# Altium footprint library PCB_lib.PcbLib: 16 footprints
Each footprint in its own frame and in the unit in brackets; x right, y up, seen from the top. Pads: shape width x height; smd on the part's side, far side on the other; paste and mask are expansions set on the pad; w line width, h text height; cw(c..) or ccw(c..) is an arc to the next point about the centre after c.
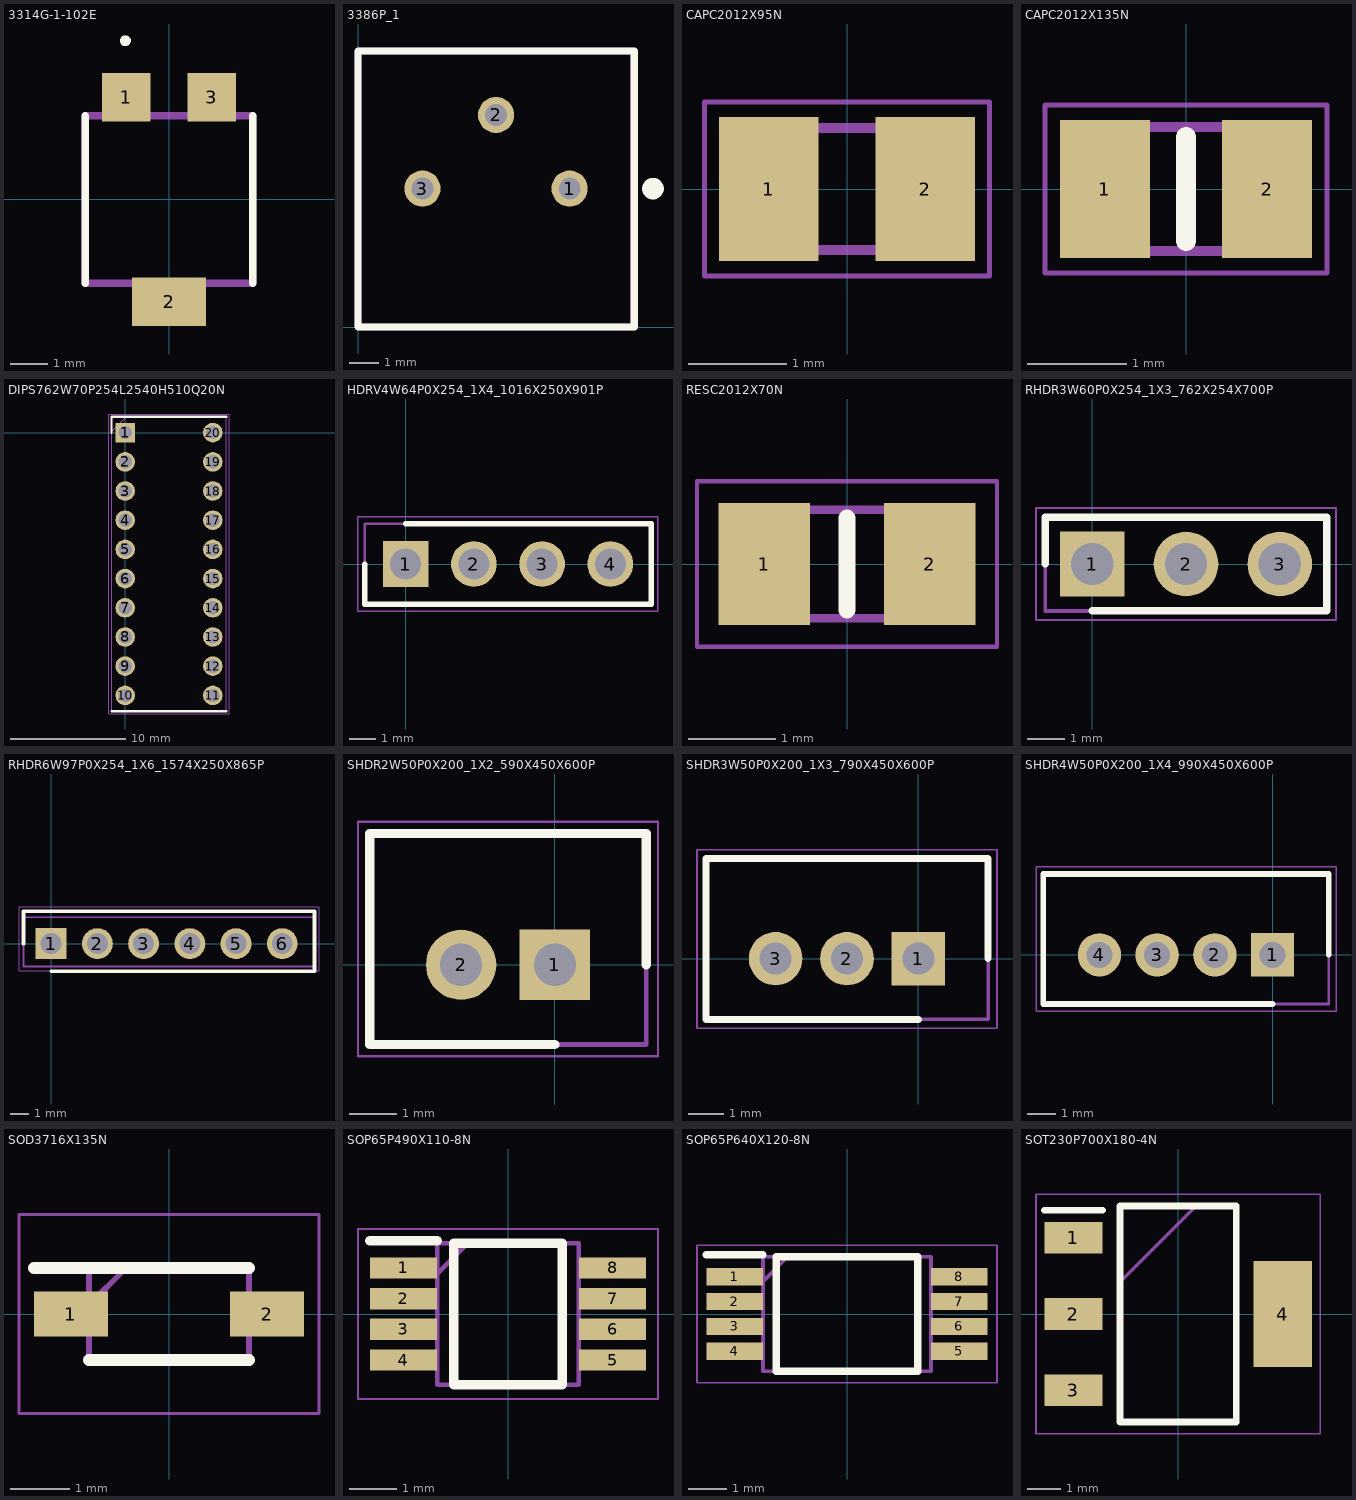
[diagram p0: the footprints below, top view; thin cyan lines are the x and y axes]

## 3314G-1-102E [mm]
pads (3):
  rect 1.3x1.3 smd: 1(-1.15,2.75) 3(1.15,2.75)
  rect 2x1.3 smd: 2(0,-2.75)
Top Overlay:
  circle w0.2: c-1.172,4.268 r0.045
  lines w0.2: -2.25,-2.25 -2.25,2.25 ; 2.25,-2.25 2.25,2.25
Mechanical 13:
  lines w0.2: -2.25,-2.25 -2.25,2.25 2.25,2.25 2.25,-2.25 -2.25,-2.25
3D body "3314G-1-103E.stp": height 2.73, standoff 0, extent -2.5,-3.099 2.5,3.099

## 3386P_1 [mm]
pads (3):
  round 1.25 hole 0.75: 1(7.305,4.78) 2(4.765,7.32) 3(2.225,4.78)
Top Overlay:
  circle w0.4: c10.182,4.778 r0.173
  lines w0.254: 0,0 9.53,0 9.53,9.53 0,9.53 0,0
Mechanical 13:
  lines w0.254: 0,0 0,9.53 9.53,9.53 9.53,0 0,0
3D body "3386P-1-103LF.stp": height 4.76, standoff -6.04, extent 0.175,0.21 9.705,9.74

## CAPC2012X95N [mm]
pads (2):
  rect 1.02x1.47 smd: 1(-0.8,0) 2(0.8,0)
Mechanical 13:
  lines w0.1: -1,-0.625 -1,0.625 1,0.625 1,-0.625 -1,-0.625
Mechanical 15:
  lines w0.05: -1.46,-0.89 -1.46,0.89 1.46,0.89 1.46,-0.89 -1.46,-0.89
3D body "CC0805KPX7R9BB104.stp": height 0.95, standoff 0, extent -1,-0.625 1,0.625

## CAPC2012X135N [mm]
pads (2):
  rect 0.91x1.39 smd: 1(-0.82,0) 2(0.82,0)
Top Overlay:
  lines w0.2: 0,-0.525 0,0.525
Mechanical 13:
  lines w0.1: -1,-0.625 -1,0.625 1,0.625 1,-0.625 -1,-0.625
Mechanical 15:
  lines w0.05: -1.425,-0.85 -1.425,0.85 1.425,0.85 1.425,-0.85 -1.425,-0.85
3D body "CL21A106KQFNNNG.stp": height 1.35, standoff 0, extent -1,-0.625 1,0.625

## DIPS762W70P254L2540H510Q20N [mm]
pads (20):
  rect 1.7x1.7 hole 1.15: 1(0,0)
  round 1.7 hole 1.15: 2(0,-2.54) 3(0,-5.08) 4(0,-7.62) 5(0,-10.16) 6(0,-12.7) 7(0,-15.24) 8(0,-17.78) 9(0,-20.32) 10(0,-22.86) 11(7.62,-22.86) 12(7.62,-20.32) 13(7.62,-17.78) 14(7.62,-15.24) 15(7.62,-12.7) 16(7.62,-10.16) 17(7.62,-7.62) 18(7.62,-5.08) 19(7.62,-2.54) 20(7.62,0)
Top Overlay:
  lines w0.2: -1.19,-24.23 8.81,-24.23 ; -1.19,0 -1.19,1.37 8.81,1.37
Mechanical 13:
  lines w0.1: -1.19,0.1 0.08,1.37 ; -1.19,-24.23 8.81,-24.23 8.81,1.37 -1.19,1.37 -1.19,-24.23
Mechanical 15:
  lines w0.05: -1.44,-24.48 9.06,-24.48 9.06,1.62 -1.44,1.62 -1.44,-24.48
3D body "1-2199298-6.stp": height 5, standoff -3.1, extent -1.19,-24.13 8.81,1.27

## HDRV4W64P0X254_1X4_1016X250X901P [mm]
pads (4):
  rect 1.7x1.7 hole 1.15: 1(0,0)
  round 1.7 hole 1.15: 2(2.54,0) 3(5.08,0) 4(7.62,0)
Top Overlay:
  lines w0.2: -1.524,0 -1.524,-1.504 9.144,-1.504 9.144,1.504 0,1.504
Mechanical 13:
  lines w0.1: -1.524,-1.504 9.144,-1.504 9.144,1.504 -1.524,1.504 -1.524,-1.504
Mechanical 15:
  lines w0.05: -1.774,-1.754 9.394,-1.754 9.394,1.754 -1.774,1.754 -1.774,-1.754
3D body "PH1-04-UA.stp": height 9.01, standoff -3.56, extent -1.27,-1.25 8.89,1.25

## RESC2012X70N [mm]
pads (2):
  rect 1.05x1.4 smd: 1(-0.95,0) 2(0.95,0)
Top Overlay:
  lines w0.2: 0,-0.525 0,0.525
Mechanical 13:
  lines w0.1: -1,-0.625 -1,0.625 1,0.625 1,-0.625 -1,-0.625
Mechanical 15:
  lines w0.05: -1.725,-0.95 -1.725,0.95 1.725,0.95 1.725,-0.95 -1.725,-0.95
3D body "ERJ-PB6B3002V.stp": height 0.7, standoff 0, extent -1,-0.625 1,0.625

## RHDR3W60P0X254_1X3_762X254X700P [mm]
pads (3):
  rect 1.75x1.75 hole 1.15: 1(0,0)
  round 1.75 hole 1.15: 2(2.54,0) 3(5.08,0)
Top Overlay:
  lines w0.2: -1.27,0 -1.27,1.27 6.35,1.27 6.35,-1.27 0,-1.27
Mechanical 13:
  lines w0.1: -1.27,-1.27 -1.27,1.27 6.35,1.27 6.35,-1.27 -1.27,-1.27
Mechanical 15:
  lines w0.05: -1.52,-1.52 -1.52,1.52 6.6,1.52 6.6,-1.52 -1.52,-1.52
3D body "801-87-003-10-001101.stp": height 7, standoff -3, extent -1.27,-1.27 6.35,1.27

## RHDR6W97P0X254_1X6_1574X250X865P [mm]
pads (6):
  rect 1.7x1.7 hole 1.15: 1(0,0)
  round 1.7 hole 1.15: 2(2.54,0) 3(5.08,0) 4(7.62,0) 5(10.16,0) 6(12.7,0)
Top Overlay:
  lines w0.2: -1.52,0 -1.52,1.775 14.47,1.775 14.47,-1.512 0,-1.512
Mechanical 13:
  lines w0.1: -1.52,-1.25 -1.52,1.45 14.47,1.45 14.47,-1.25 -1.52,-1.25
Mechanical 15:
  lines w0.05: -1.77,-1.5 -1.77,2.025 14.72,2.025 14.72,-1.5 -1.77,-1.5
3D body "61300611821.stp": height 8.65, standoff -3.25, extent -1.52,-1.25 14.22,1.25

## SHDR2W50P0X200_1X2_590X450X600P [mm]
pads (2):
  rect 1.5x1.5 hole 0.9: 1(0,0)
  round 1.5 hole 0.9: 2(-2,0)
Top Overlay:
  lines w0.2: 0,-1.7 -3.95,-1.7 -3.95,2.8 1.95,2.8 1.95,0
Mechanical 13:
  lines w0.1: -3.95,-1.7 -3.95,2.8 1.95,2.8 1.95,-1.7 -3.95,-1.7
Mechanical 15:
  lines w0.05: -4.2,-1.95 -4.2,3.05 2.2,3.05 2.2,-1.95 -4.2,-1.95
3D body "B2B-PH-K-S_LF__SN_.stp": height 6, standoff -3.4, extent -3.95,-2.25 1.95,2.25

## SHDR3W50P0X200_1X3_790X450X600P [mm]
pads (3):
  rect 1.5x1.5 hole 0.9: 1(0,0)
  round 1.5 hole 0.9: 2(-2,0) 3(-4,0)
Top Overlay:
  lines w0.2: 0,-1.7 -5.95,-1.7 -5.95,2.8 1.95,2.8 1.95,0
Mechanical 13:
  lines w0.1: -5.95,-1.7 -5.95,2.8 1.95,2.8 1.95,-1.7 -5.95,-1.7
Mechanical 15:
  lines w0.05: -6.2,-1.95 -6.2,3.05 2.2,3.05 2.2,-1.95 -6.2,-1.95
3D body "B3B-PH-K-S_LF__SN_.stp": height 6, standoff -3.4, extent -5.95,-1.7 1.95,2.8

## SHDR4W50P0X200_1X4_990X450X600P [mm]
pads (4):
  rect 1.5x1.5 hole 0.9: 1(0,0)
  round 1.5 hole 0.9: 2(-2,0) 3(-4,0) 4(-6,0)
Top Overlay:
  lines w0.2: 0,-1.7 -7.95,-1.7 -7.95,2.8 1.95,2.8 1.95,0
Mechanical 13:
  lines w0.1: -7.95,-1.7 -7.95,2.8 1.95,2.8 1.95,-1.7 -7.95,-1.7
Mechanical 15:
  lines w0.05: -8.2,-1.95 -8.2,3.05 2.2,3.05 2.2,-1.95 -8.2,-1.95
3D body "B4B-PH-K-S_LF__SN_.stp": height 6, standoff -3.4, extent -7.95,-2.25 1.95,2.25

## SOD3716X135N [mm]
pads (2):
  rect 1.25x0.75 smd: 1(-1.65,0) 2(1.65,0)
Top Overlay:
  lines w0.2: -2.275,0.775 1.35,0.775 ; -1.35,-0.775 1.35,-0.775
Mechanical 13:
  lines w0.1: -1.35,0.15 -0.725,0.775 ; -1.35,-0.775 -1.35,0.775 1.35,0.775 1.35,-0.775 -1.35,-0.775
Mechanical 15:
  lines w0.05: -2.525,-1.675 -2.525,1.675 2.525,1.675 2.525,-1.675 -2.525,-1.675
3D body "BZT52C4V7-E3-08.stp": height 1.35, standoff 0, extent -1.85,-0.775 1.85,0.775

## SOP65P490X110-8N [mm]
pads (8):
  rect 1.425x0.45 smd: 1(-2.212,0.975) 2(-2.212,0.325) 3(-2.212,-0.325) 4(-2.212,-0.975) 5(2.212,-0.975) 6(2.212,-0.325) 7(2.212,0.325) 8(2.212,0.975)
Top Overlay:
  lines w0.2: -2.925,1.55 -1.5,1.55 ; -1.15,-1.5 -1.15,1.5 1.15,1.5 1.15,-1.5 -1.15,-1.5
Mechanical 13:
  lines w0.1: -1.5,0.85 -0.85,1.5 ; -1.5,-1.5 -1.5,1.5 1.5,1.5 1.5,-1.5 -1.5,-1.5
Mechanical 15:
  lines w0.05: -3.175,-1.8 -3.175,1.8 3.175,1.8 3.175,-1.8 -3.175,-1.8
3D body "LM358FVJ-E2.stp": height 1.1, standoff 0, extent -2.45,-1.5 2.45,1.5

## SOP65P640X120-8N [mm]
pads (8):
  rect 1.475x0.45 smd: 1(-2.938,0.975) 2(-2.938,0.325) 3(-2.938,-0.325) 4(-2.938,-0.975) 5(2.938,-0.975) 6(2.938,-0.325) 7(2.938,0.325) 8(2.938,0.975)
Top Overlay:
  lines w0.2: -3.675,1.55 -2.2,1.55 ; -1.85,-1.5 -1.85,1.5 1.85,1.5 1.85,-1.5 -1.85,-1.5
Mechanical 13:
  lines w0.1: -2.2,0.85 -1.55,1.5 ; -2.2,-1.5 -2.2,1.5 2.2,1.5 2.2,-1.5 -2.2,-1.5
Mechanical 15:
  lines w0.05: -3.925,-1.8 -3.925,1.8 3.925,1.8 3.925,-1.8 -3.925,-1.8
3D body "TS952IPT.stp": height 1.2, standoff 0, extent -3.2,-1.5 3.2,1.5

## SOT230P700X180-4N [mm]
pads (4):
  rect 1.75x0.95 smd: 1(-3.15,2.3) 2(-3.15,0) 3(-3.15,-2.3)
  rect 1.75x3.2 smd: 4(3.15,0)
Top Overlay:
  lines w0.2: -4.025,3.125 -2.275,3.125 ; -1.75,-3.25 1.75,-3.25 1.75,3.25 -1.75,3.25 -1.75,-3.25
Mechanical 13:
  lines w0.1: -1.75,0.95 0.55,3.25 ; -1.75,-3.25 1.75,-3.25 1.75,3.25 -1.75,3.25 -1.75,-3.25
Mechanical 15:
  lines w0.05: -4.275,-3.6 4.275,-3.6 4.275,3.6 -4.275,3.6 -4.275,-3.6
3D body "TLV1117LV33DCYR.stp": height 1.8, standoff 0, extent -3.5,-3.25 3.5,3.25